# EAGLE library part SX1262 (library MyLib)
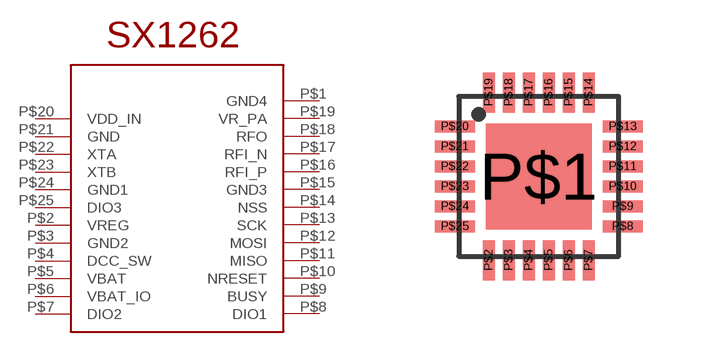
[diagram p0: symbol with the pads of SX1262IMLTRT; footprint SX1262IMLTRT]

Designator prefix -

## SX1262  [SX1262IMLTRT]
P$1  GND4
P$2  VREG
P$3  GND2
P$4  DCC_SW
P$5  VBAT
P$6  VBAT_IO
P$7  DIO2
P$8  DIO1
P$9  BUSY
P$10  NRESET
P$11  MISO
P$12  MOSI
P$13  SCK
P$14  NSS
P$15  GND3
P$16  RFI_P
P$17  RFI_N
P$18  RFO
P$19  VR_PA
P$20  VDD_IN
P$21  GND
P$22  XTA
P$23  XTB
P$24  GND1
P$25  DIO3

## Footprint SX1262IMLTRT (pad centres in mm)
smd 2.65 x 2.65: P$1 -0.1,0.15
smd 0.3 x 1: P$2 -1.35,-1.95; P$3 -0.85,-1.95; P$4 -0.35,-1.95; P$5 0.15,-1.95; P$6 0.65,-1.95; P$7 1.15,-1.95; P$14 1.15,2.25; P$15 0.65,2.25; P$16 0.15,2.25; P$17 -0.35,2.25; P$18 -0.85,2.25; P$19 -1.35,2.25
smd 1 x 0.3: P$8 2,-1.1; P$9 2,-0.6; P$10 2,-0.1; P$11 2,0.4; P$12 2,0.9; P$13 2,1.4; P$20 -2.2,1.4; P$21 -2.2,0.9; P$22 -2.2,0.4; P$23 -2.2,-0.1; P$24 -2.2,-0.6; P$25 -2.2,-1.1